# Altium schematic symbol library Schlib1.SchLib: 1 symbol
Pins are listed as number, name and electrical type; pins without a type are passive.

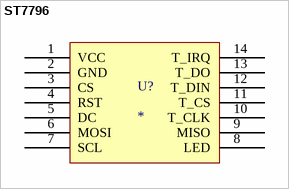
[diagram p0: symbol ST7796]

## ST7796
designator U?
pins: 1 VCC, 2 GND, 3 CS, 4 RST, 5 DC, 6 MOSI, 7 SCL, 8 LED, 9 MISO, 10 T_CLK, 11 T_CS, 12 T_DIN, 13 T_DO, 14 T_IRQ